# Altium schematic symbol library DIODES.SchLib: 34 symbols
Pins are listed as number, name and electrical type; pins without a type are passive.

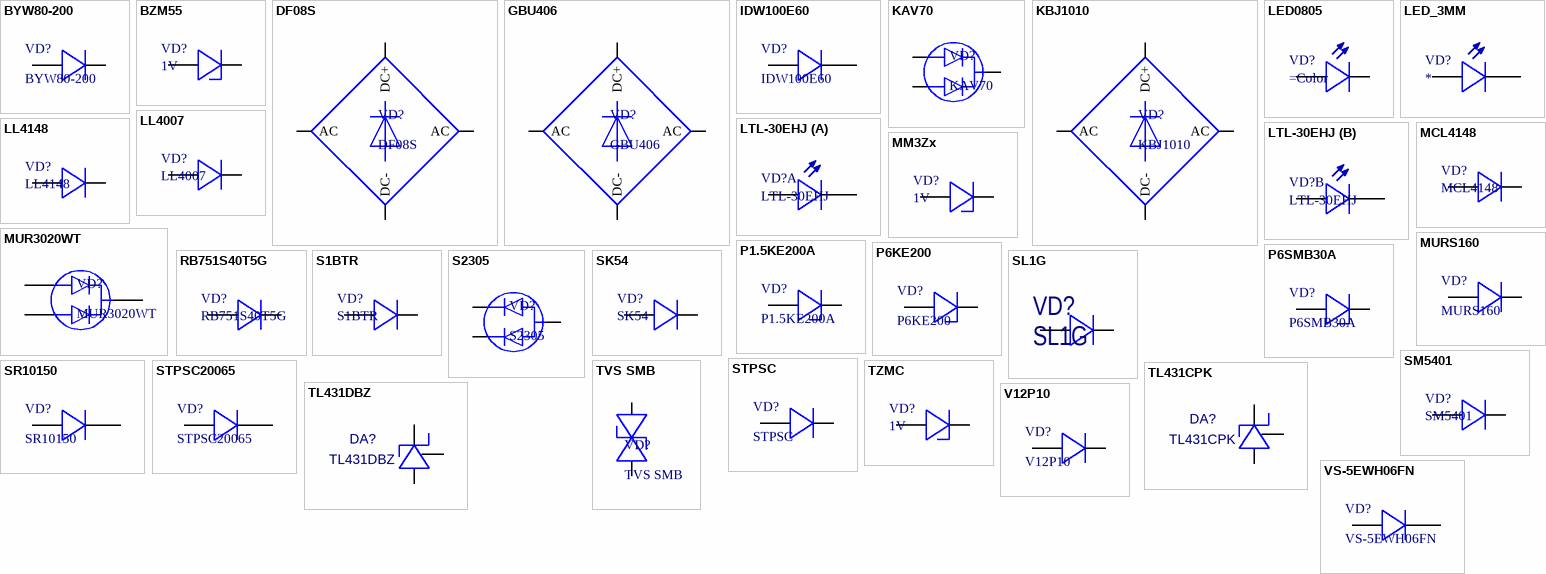
[diagram p0: symbols BYW80-200 to VS-5EWH06FN]

## BYW80-200
designator VD?
Schottky; ComponentDescription: BYW80-200
footprint TO220-AC; pin to pad A>3 K>1
pins: A, K

## BZM55
designator VD?, comment 1V
Zener; ComponentDescription: BZM55 1V; Value: 1V
footprint DIOMELF1912N (MELF Diode, 2-Leads, Body 1,90x1,15mm, IPC Medium Density)
pins: A, K

## DF08S
designator VD?
ComponentDescription: DF08S
footprint DFS; pin to pad +>p ->n
pins: + DC+, - DC-, AC1 AC, AC2 AC

## GBU406
designator VD?
ComponentDescription: GBU406
footprint GBU406
pins: + DC+, - DC-, AC1 AC, AC2 AC

## IDW100E60
designator VD?
ComponentDescription: IDW100E60
footprint TO247-h20
pins: 2 K, 3 A

## KAV70
designator VD?
ComponentDescription: KAV70
footprint SOT95P230X110-3N (SOT23, 3-Leads, Body 2,90x2,30mm, Pitch 0,95mm, IPC Medium Density)
pins: 1 A, 2 A, 3 K

## KBJ1010
designator VD?
ComponentDescription: KBJ1010
footprint KBJ1010
pins: + DC+, - DC-, AC1 AC, AC2 AC

## LED0805
designator VD?
LED0805; ComponentDescription: LED0805 Green
footprint LED0805 (Chip Resistor, 2-Leads, Body 2,00x1,25mm, IPC Medium Density)
pins: A, K

## LED_3MM
designator VD?
ComponentDescription: Светодиод 3мм; Color: *
footprint LED_3MM
pins: A, K

## LL4007
designator VD?
MELF (DO-213AB); ComponentDescription: LL4007
footprint DIOMELF5025N (MELF Diode, 2-Leads, Body 5,00x2,50mm, IPC Medium Density)
pins: A, K

## LL4148
designator VD?
miniMelf; ComponentDescription: LL4148
footprint DIOMELF3515N (MELF Diode, 2-Leads, Body 3,50x1,45mm, IPC Medium Density)
pins: A, K

## LTL-30EHJ
designator VD?
Color: *; ComponentDescription: LTL-30EHJ
footprint 2 color led
part A pins: 1, 2
part B pins: 2, 3

## MCL4148
designator VD?
microMelf; ComponentDescription: MCL4148
footprint DIOMELF1912N (MELF Diode, 2-Leads, Body 1,90x1,15mm, IPC Medium Density)
pins: A, K

## MM3Zx
designator VD?, comment 1V
Zener; ComponentDescription: MM3Z 1V; Value: 1V
footprint SODFL260X100-2N (SODFL, 2-Leads, Body 1,30x2,60mm, IPC Medium Density)
pins: A, K

## MUR3020WT
designator VD?
ComponentDescription: MUR3020WT
footprint TO247-h20
pins: 1 A, 2 K, 3 A

## MURS160
designator VD?
ComponentDescription: MURS160
footprint DIOM4336X24N (Molded Diode, 2-Leads, Body 4,33x3,65mm, IPC Medium Density)
pins: A, K

## P1.5KE200A
designator VD?
ComponentDescription: P1.5KE200A
footprint DO-201-200V
pins: 1 A, 2 K

## P6KE200
designator VD?
TVS diode; ComponentDescription: P6KE200
footprint DO-15-400
pins: 1 A, 2 K

## P6SMB30A
designator VD?
30V; ComponentDescription: P6SMB30A
footprint DIOM4336X24N (Molded Diode, 2-Leads, Body 4,33x3,65mm, IPC Medium Density); pin to pad 1>A 2>K
pins: 1 A, 2 K

## RB751S40T5G
designator VD?
40V 30mA SOD323; ComponentDescription: RB751S40T5G
footprint SODFL260X100-2N (SODFL, 2-Leads, Body 1,30x2,60mm, IPC Medium Density)
pins: A, K

## S1BTR
designator VD?
ComponentDescription: S1BTR
footprint SODFL500X110-2N (SMA 2-Leads, Body 2,55x5,00mm, IPC Medium Density)
pins: A, K

## S2305
designator VD?
USB 5V TVS; ComponentDescription: S2305
footprint SOT95P230X110-3N (SOT23, 3-Leads, Body 2,90x2,30mm, Pitch 0,95mm, IPC Medium Density)
pins: 1 A, 2 A, 3 K

## SK54
designator VD?
ComponentDescription: SK54
footprint DIOM4336X24N (Molded Diode, 2-Leads, Body 4,33x3,65mm, IPC Medium Density)
pins: A, K

## SL1G
designator VD?
ComponentDescription: SL1G
footprint SODFL360X130-2N (SODFL, 2-Leads, Body 1,70x3,60mm, IPC Medium Density)
pins: A, K

## SM5401
designator VD?
ComponentDescription: SM5401
footprint DIOMELF5025N (MELF Diode, 2-Leads, Body 5,00x2,50mm, IPC Medium Density); pin to pad 1>A 2>K
pins: 1 A, 2 K

## SR10150
designator VD?
Schottky; ComponentDescription: SR10150
footprint TO220-AC
pins: 1 K, 3 A

## STPSC
designator VD?
Silicon carbide diode; ComponentDescription: STPSC
footprint TO220-AC; pin to pad A>3 K>1
pins: A, K

## STPSC20065
designator VD?
ComponentDescription: STPSC20065
footprint TO247-2-h20
pins: 1 K, 3 A

## TL431CPK
designator DA?
Value: *; ComponentDescription: TL431CPK
footprint SOT89-150P409X160-3N (SOT89, 3-Leads, Body 4,50x2,50mm, Pitch 1,50mm, Lead Span 4,1mm, IPC Medium Density)
pins: 1 R, 2 A, 3 K

## TL431DBZ
designator DA?
Value: *; ComponentDescription: TL431DBZ
footprint SOT95P230X110-3N (SOT23, 3-Leads, Body 2,90x2,30mm, Pitch 0,95mm, IPC Medium Density)
pins: 1 K, 2 R, 3 A

## TVS SMB
designator VD?
ComponentDescription: TVS SMB
footprint DIOM4336X24N (Molded Diode, 2-Leads, Body 4,33x3,65mm, IPC Medium Density); pin to pad 1>A 2>K
pins: 1 A, 2 K

## TZMC
designator VD?, comment 1V
Zener; ComponentDescription: TZMC 1V; Value: 1V
footprint DIOMELF3515N (MELF Diode, 2-Leads, Body 3,50x1,45mm, IPC Medium Density)
pins: A, K

## V12P10
designator VD?
ComponentDescription: V12P10
footprint TO277A
pins: A, K

## VS-5EWH06FN
designator VD?
ComponentDescription: VS-5EWH06FN
footprint DPAK229P970X230-3N (D-PAK, 3-Pads, Body 6,20x6,71mm (max), IPC Medium Density)
pins: 2 K, 3 A